# Altium integrated library Analog Devices Data Converters Digital-to-Analog Converters.IntLib: 2231 symbols (part 142 of 181)
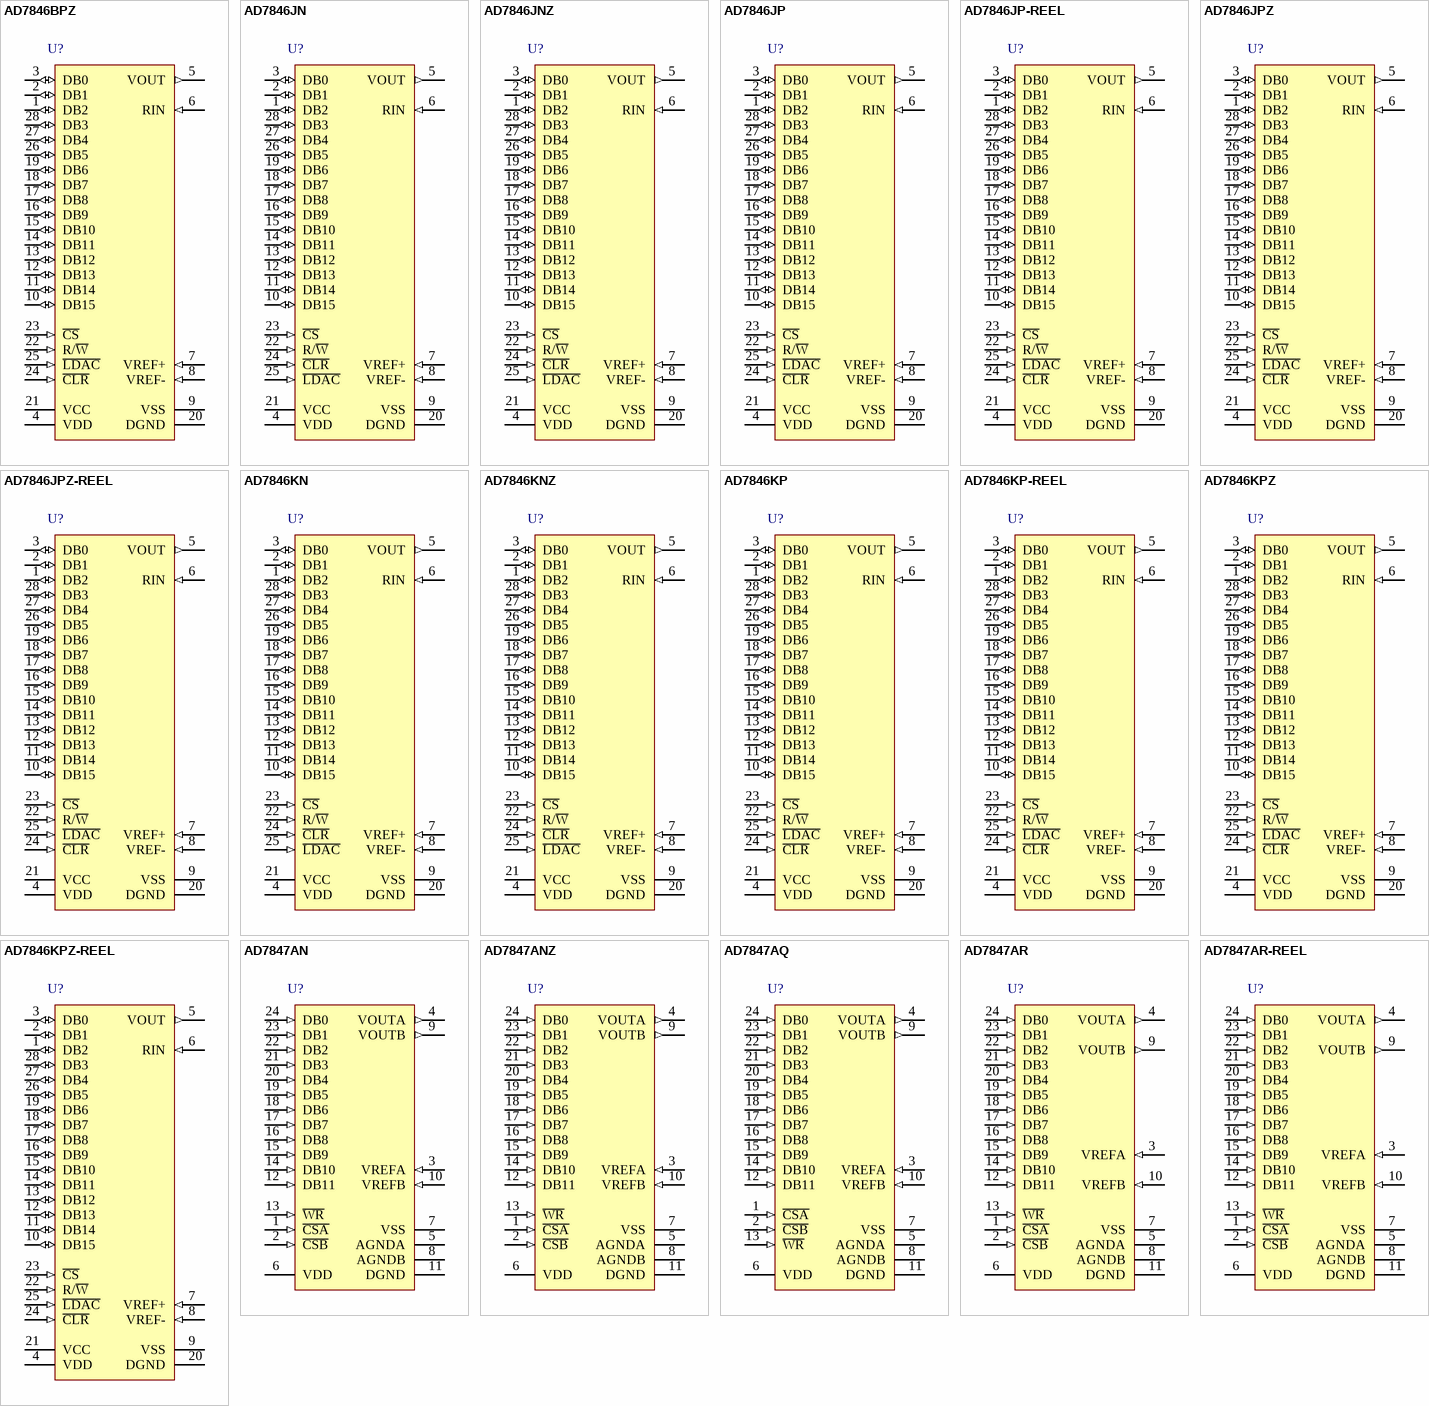
[diagram p255: symbols AD7846BPZ to AD7847AR-REEL]

## AD7847AR-REEL
designator U?
Dual 12-Bit LC2MOS Complete MDAC, -40 to +85 degC, RW-24, Reel; Generic Part Number: AD7847; Manufacturer: Analog Devices; PartNumber: AD7847AR-REEL; # DAC Outputs: 2; Max V+: 15.75V; Op Pwr Diss: 210mW; Resolution (Bits): 12; Settling Time: 4µs; Single Supply: No; DatasheetVersion: C01007a-0-8/00 (rev. C); PackageVersion: 060706-A; PackageReference: RW-24; PackageDescription: 24-Lead Standard Small Outline Package [SOIC_W]; Supplier 1: Digi-Key; Supplier Part Number 1: AD7847AR-REEL-ND; Supplier 2: Newark; Supplier Part Number 2: 09B6080; Supplier 3: Mouser; Supplier Part Number 3: 584-AD7847AR-R; Packing: Reel; RoHS: N; Mounting Technology: Surface Mount; Code_JEDEC: MS-013-AD; ComponentLink1Description: Manufacturer URL; ComponentLink1URL: http://www.analog.com/en/index.html; ComponentLink2Description: Datasheet; ComponentLink2URL: http://www.analog.com/static/imported-files/data_sheets/AD7837_7847.pdf; ComponentLink3Description: Package Specification; ComponentLink3URL: http://www.analog.com/static/imported-files/packages/33665150946139RW_24.pdf; ComponentLink4Description: Product URL; ComponentLink4URL: http://www.analog.com/en/digital-to-analog-converters/da-converters/ad7847/products/product.html
footprint RW-24_N (SOIC, 24-Leads, Body 15.4x7.5mm, Pitch 1.27mm, IPC Medium Density)
footprint RW-24_L (SOIC, 24-Leads, Body 15.4x7.5mm, Pitch 1.27mm, IPC High Density)
footprint RW-24_M (SOIC, 24-Leads, Body 15.4x7.5mm, Pitch 1.27mm, IPC Low Density)
pins: 1 ~{CSA} (in) "Chip Select Input for DAC A. Active low logic input. DAC A is selected when this input is low.", 2 ~{CSB} (in) "Chip Select Input for DAC B. Active low logic input. DAC B is selected when this input is low.", 3 VREFA (in) "Reference Input Voltage for DAC A. This may be an ac or dc signal.", 4 VOUTA (out) "Analog Output Voltage from DAC A.", 5 AGNDA (power) "Analog Ground for DAC A.", 6 VDD (power) "Positive Power Supply.", 7 VSS (power) "Negative Power Supply.", 8 AGNDB (power) "Analog Ground for DAC B.", 9 VOUTB (out) "Analog Output Voltage from DAC B.", 10 VREFB (in) "Reference Input Voltage for DAC B. This may be an ac or dc signal.", 11 DGND (power) "Digital Ground.", 12 DB11 (in) "Data Bit 11 (MSB).", 13 ~{WR} (in) "Write Input. W\R\ is a positive edge triggered input which is used in conjunction with C\S\A\ and C\S\B\ to write data to the DAC latches.", 14 DB10 (in) "Data Bit 10.", 15 DB9 (in) "Data Bit 9.", 16 DB8 (in) "Data Bit 8.", 17 DB7 (in) "Data Bit 7.", 18 DB6 (in) "Data Bit 6.", 19 DB5 (in) "Data Bit 5.", 20 DB4 (in) "Data Bit 4.", 21 DB3 (in) "Data Bit 3.", 22 DB2 (in) "Data Bit 2.", 23 DB1 (in) "Data Bit 1.", 24 DB0 (in) "Data Bit 0 (LSB)."

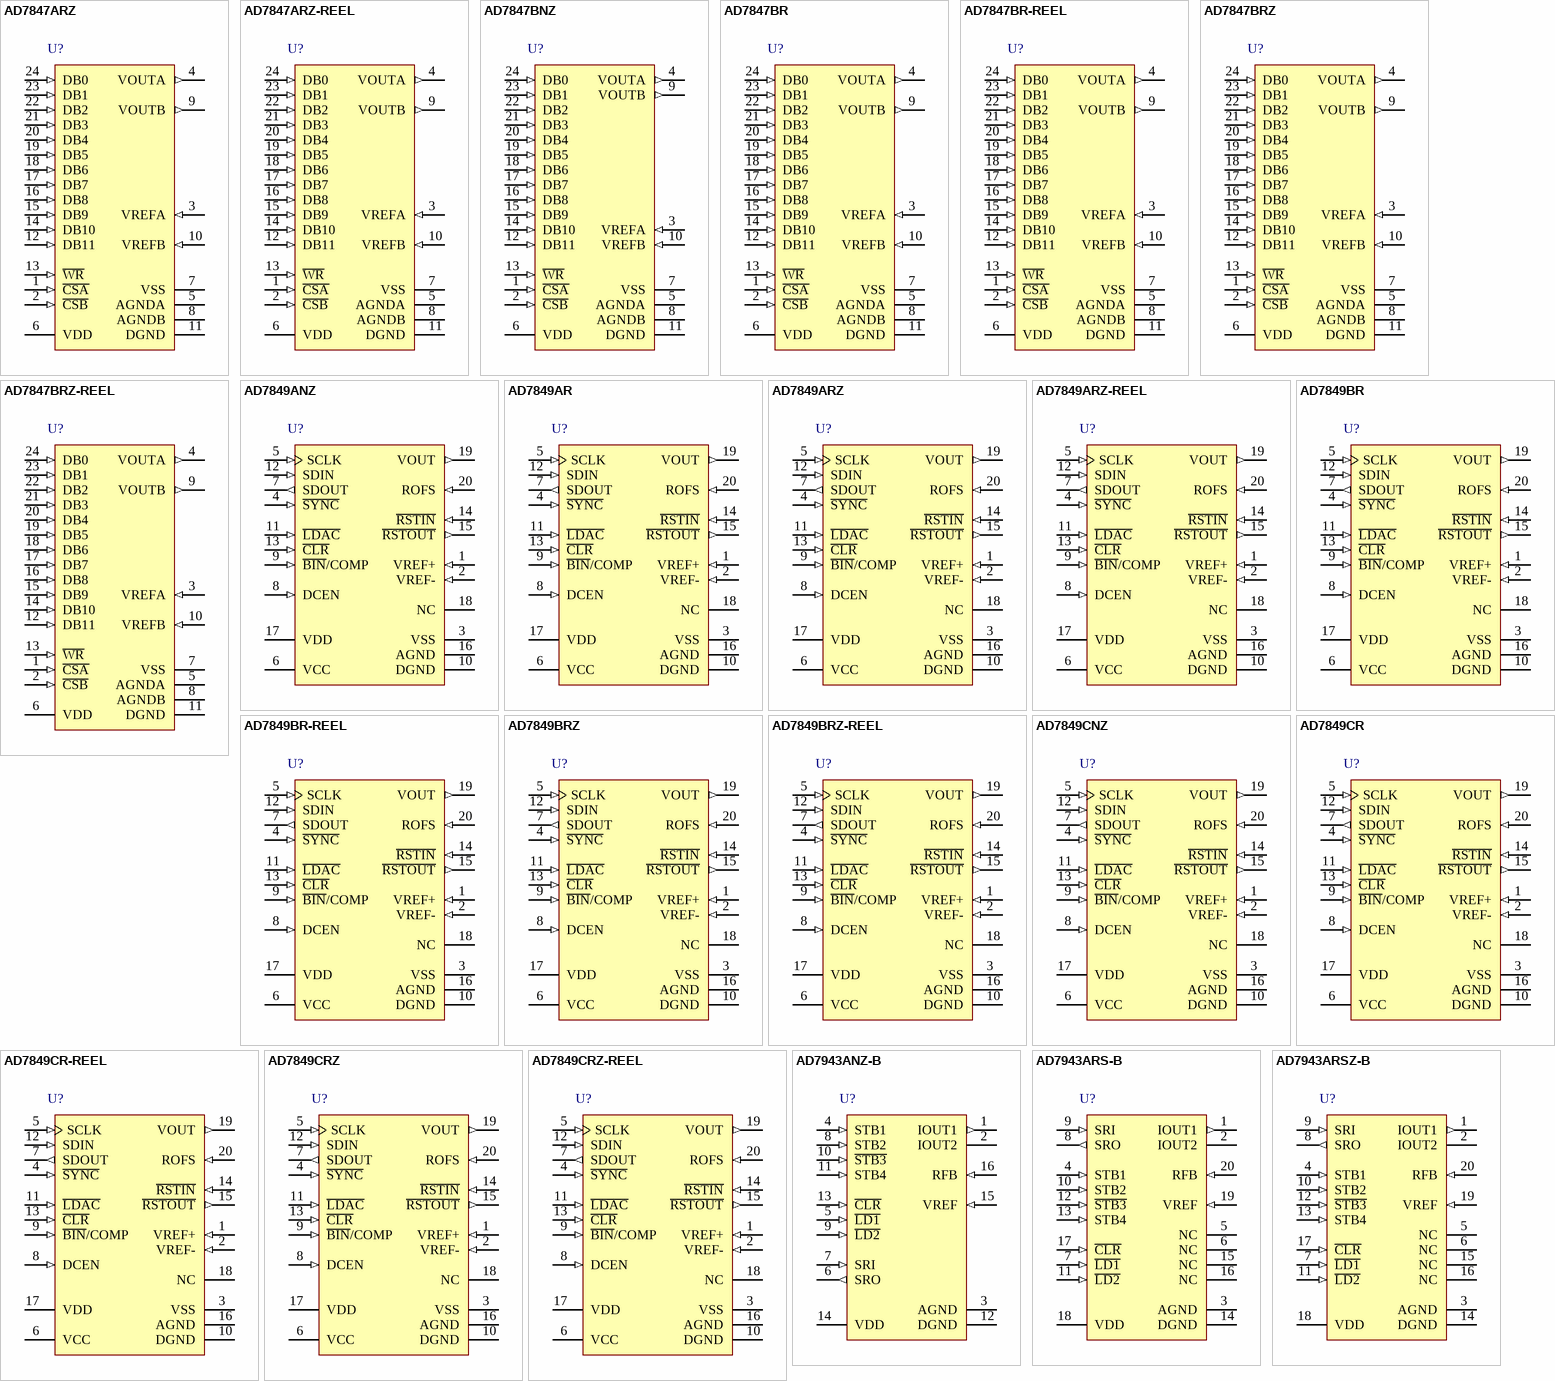
[diagram p79: symbols AD7847ARZ to AD7943ARSZ-B]

## AD7847ARZ
designator U?
Dual 12-Bit LC2MOS Complete MDAC, -40 to +85 degC, RW-24, Pb-Free, Tube; Generic Part Number: AD7847; Manufacturer: Analog Devices; PartNumber: AD7847ARZ; # DAC Outputs: 2; Max V+: 15.75V; Op Pwr Diss: 210mW; Resolution (Bits): 12; Settling Time: 4µs; Single Supply: No; DatasheetVersion: C01007a-0-8/00 (rev. C); PackageVersion: 060706-A; PackageReference: RW-24; PackageDescription: 24-Lead Standard Small Outline Package [SOIC_W]; Supplier 1: Digi-Key; Supplier Part Number 1: AD7847ARZ-ND; Supplier 2: Newark; Supplier Part Number 2: 59K5661; Supplier 3: Mouser; Supplier Part Number 3: 584-AD7847ARZ; Packing: Tube; RoHS: Y; Mounting Technology: Surface Mount; Code_JEDEC: MS-013-AD; ComponentLink1Description: Manufacturer URL; ComponentLink1URL: http://www.analog.com/en/index.html; ComponentLink2Description: Datasheet; ComponentLink2URL: http://www.analog.com/static/imported-files/data_sheets/AD7837_7847.pdf; ComponentLink3Description: Package Specification; ComponentLink3URL: http://www.analog.com/static/imported-files/packages/33665150946139RW_24.pdf; ComponentLink4Description: Product URL; ComponentLink4URL: http://www.analog.com/en/digital-to-analog-converters/da-converters/ad7847/products/product.html
footprint RW-24_N (SOIC, 24-Leads, Body 15.4x7.5mm, Pitch 1.27mm, IPC Medium Density)
footprint RW-24_L (SOIC, 24-Leads, Body 15.4x7.5mm, Pitch 1.27mm, IPC High Density)
footprint RW-24_M (SOIC, 24-Leads, Body 15.4x7.5mm, Pitch 1.27mm, IPC Low Density)
pins: 1 ~{CSA} (in) "Chip Select Input for DAC A. Active low logic input. DAC A is selected when this input is low.", 2 ~{CSB} (in) "Chip Select Input for DAC B. Active low logic input. DAC B is selected when this input is low.", 3 VREFA (in) "Reference Input Voltage for DAC A. This may be an ac or dc signal.", 4 VOUTA (out) "Analog Output Voltage from DAC A.", 5 AGNDA (power) "Analog Ground for DAC A.", 6 VDD (power) "Positive Power Supply.", 7 VSS (power) "Negative Power Supply.", 8 AGNDB (power) "Analog Ground for DAC B.", 9 VOUTB (out) "Analog Output Voltage from DAC B.", 10 VREFB (in) "Reference Input Voltage for DAC B. This may be an ac or dc signal.", 11 DGND (power) "Digital Ground.", 12 DB11 (in) "Data Bit 11 (MSB).", 13 ~{WR} (in) "Write Input. W\R\ is a positive edge triggered input which is used in conjunction with C\S\A\ and C\S\B\ to write data to the DAC latches.", 14 DB10 (in) "Data Bit 10.", 15 DB9 (in) "Data Bit 9.", 16 DB8 (in) "Data Bit 8.", 17 DB7 (in) "Data Bit 7.", 18 DB6 (in) "Data Bit 6.", 19 DB5 (in) "Data Bit 5.", 20 DB4 (in) "Data Bit 4.", 21 DB3 (in) "Data Bit 3.", 22 DB2 (in) "Data Bit 2.", 23 DB1 (in) "Data Bit 1.", 24 DB0 (in) "Data Bit 0 (LSB)."

## AD7847ARZ-REEL
designator U?
Dual 12-Bit LC2MOS Complete MDAC, -40 to +85 degC, RW-24, Pb-Free, Reel; Generic Part Number: AD7847; Manufacturer: Analog Devices; PartNumber: AD7847ARZ-REEL; # DAC Outputs: 2; Max V+: 15.75V; Op Pwr Diss: 210mW; Resolution (Bits): 12; Settling Time: 4µs; Single Supply: No; DatasheetVersion: C01007a-0-8/00 (rev. C); PackageVersion: 060706-A; PackageReference: RW-24; PackageDescription: 24-Lead Standard Small Outline Package [SOIC_W]; Supplier 1: Digi-Key; Supplier Part Number 1: AD7847ARZ-REEL-ND; Supplier 2: Mouser; Supplier Part Number 2: 584-AD7847ARZ-R; Packing: Reel; RoHS: Y; Mounting Technology: Surface Mount; Code_JEDEC: MS-013-AD; ComponentLink1Description: Manufacturer URL; ComponentLink1URL: http://www.analog.com/en/index.html; ComponentLink2Description: Datasheet; ComponentLink2URL: http://www.analog.com/static/imported-files/data_sheets/AD7837_7847.pdf; ComponentLink3Description: Package Specification; ComponentLink3URL: http://www.analog.com/static/imported-files/packages/33665150946139RW_24.pdf; ComponentLink4Description: Product URL; ComponentLink4URL: http://www.analog.com/en/digital-to-analog-converters/da-converters/ad7847/products/product.html
footprint RW-24_N (SOIC, 24-Leads, Body 15.4x7.5mm, Pitch 1.27mm, IPC Medium Density)
footprint RW-24_L (SOIC, 24-Leads, Body 15.4x7.5mm, Pitch 1.27mm, IPC High Density)
footprint RW-24_M (SOIC, 24-Leads, Body 15.4x7.5mm, Pitch 1.27mm, IPC Low Density)
pins: 1 ~{CSA} (in) "Chip Select Input for DAC A. Active low logic input. DAC A is selected when this input is low.", 2 ~{CSB} (in) "Chip Select Input for DAC B. Active low logic input. DAC B is selected when this input is low.", 3 VREFA (in) "Reference Input Voltage for DAC A. This may be an ac or dc signal.", 4 VOUTA (out) "Analog Output Voltage from DAC A.", 5 AGNDA (power) "Analog Ground for DAC A.", 6 VDD (power) "Positive Power Supply.", 7 VSS (power) "Negative Power Supply.", 8 AGNDB (power) "Analog Ground for DAC B.", 9 VOUTB (out) "Analog Output Voltage from DAC B.", 10 VREFB (in) "Reference Input Voltage for DAC B. This may be an ac or dc signal.", 11 DGND (power) "Digital Ground.", 12 DB11 (in) "Data Bit 11 (MSB).", 13 ~{WR} (in) "Write Input. W\R\ is a positive edge triggered input which is used in conjunction with C\S\A\ and C\S\B\ to write data to the DAC latches.", 14 DB10 (in) "Data Bit 10.", 15 DB9 (in) "Data Bit 9.", 16 DB8 (in) "Data Bit 8.", 17 DB7 (in) "Data Bit 7.", 18 DB6 (in) "Data Bit 6.", 19 DB5 (in) "Data Bit 5.", 20 DB4 (in) "Data Bit 4.", 21 DB3 (in) "Data Bit 3.", 22 DB2 (in) "Data Bit 2.", 23 DB1 (in) "Data Bit 1.", 24 DB0 (in) "Data Bit 0 (LSB)."

## AD7847BNZ
designator U?
Dual 12-Bit LC2MOS Complete MDAC, -40 to +85 degC, N-24-1, Pb-Free, Tube; Generic Part Number: AD7847; Manufacturer: Analog Devices; PartNumber: AD7847BNZ; # DAC Outputs: 2; Max V+: 15.75V; Op Pwr Diss: 210mW; Resolution (Bits): 12; Settling Time: 4µs; Single Supply: No; DatasheetVersion: C01007a-0-8/00 (rev. C); PackageVersion: 071006-A; PackageReference: N-24-1; PackageDescription: 24-Lead Plastic Dual In-Line Package [PDIP] Narrow Body; Supplier 1: Digi-Key; Supplier Part Number 1: AD7847BNZ-ND; Supplier 2: Mouser; Supplier Part Number 2: 584-AD7847BNZ; Packing: Tube; RoHS: Y; Mounting Technology: Through Hole; Code_JEDEC: MS-001; ComponentLink1Description: Manufacturer URL; ComponentLink1URL: http://www.analog.com/en/index.html; ComponentLink2Description: Datasheet; ComponentLink2URL: http://www.analog.com/static/imported-files/data_sheets/AD7837_7847.pdf; ComponentLink3Description: Package Specification; ComponentLink3URL: http://www.analog.com/static/imported-files/packages/50726455539629N_24_1.pdf; ComponentLink4Description: Product URL; ComponentLink4URL: http://www.analog.com/en/digital-to-analog-converters/da-converters/ad7847/products/product.html
footprint N-24-1 (DIP, 24-Leads, Row Spacing 7.62mm, Pitch 2.54mm, Body 31.9x6.6mm)
pins: 1 ~{CSA} (in) "Chip Select Input for DAC A. Active low logic input. DAC A is selected when this input is low.", 2 ~{CSB} (in) "Chip Select Input for DAC B. Active low logic input. DAC B is selected when this input is low.", 3 VREFA (in) "Reference Input Voltage for DAC A. This may be an ac or dc signal.", 4 VOUTA (out) "Analog Output Voltage from DAC A.", 5 AGNDA (power) "Analog Ground for DAC A.", 6 VDD (power) "Positive Power Supply.", 7 VSS (power) "Negative Power Supply.", 8 AGNDB (power) "Analog Ground for DAC B.", 9 VOUTB (out) "Analog Output Voltage from DAC B.", 10 VREFB (in) "Reference Input Voltage for DAC B. This may be an ac or dc signal.", 11 DGND (power) "Digital Ground.", 12 DB11 (in) "Data Bit 11 (MSB).", 13 ~{WR} (in) "Write Input. W\R\ is a positive edge triggered input which is used in conjunction with C\S\A\ and C\S\B\ to write data to the DAC latches.", 14 DB10 (in) "Data Bit 10.", 15 DB9 (in) "Data Bit 9.", 16 DB8 (in) "Data Bit 8.", 17 DB7 (in) "Data Bit 7.", 18 DB6 (in) "Data Bit 6.", 19 DB5 (in) "Data Bit 5.", 20 DB4 (in) "Data Bit 4.", 21 DB3 (in) "Data Bit 3.", 22 DB2 (in) "Data Bit 2.", 23 DB1 (in) "Data Bit 1.", 24 DB0 (in) "Data Bit 0 (LSB)."

## AD7847BR
designator U?
Dual 12-Bit LC2MOS Complete MDAC, -40 to +85 degC, RW-24, Tube; Generic Part Number: AD7847; Manufacturer: Analog Devices; PartNumber: AD7847BR; # DAC Outputs: 2; Max V+: 15.75V; Op Pwr Diss: 210mW; Resolution (Bits): 12; Settling Time: 4µs; Single Supply: No; DatasheetVersion: C01007a-0-8/00 (rev. C); PackageVersion: 060706-A; PackageReference: RW-24; PackageDescription: 24-Lead Standard Small Outline Package [SOIC_W]; Supplier 1: Digi-Key; Supplier Part Number 1: AD7847BR-ND; Supplier 2: Mouser; Supplier Part Number 2: 584-AD7847BR; Packing: Tube; RoHS: N; Mounting Technology: Surface Mount; Code_JEDEC: MS-013-AD; ComponentLink1Description: Manufacturer URL; ComponentLink1URL: http://www.analog.com/en/index.html; ComponentLink2Description: Datasheet; ComponentLink2URL: http://www.analog.com/static/imported-files/data_sheets/AD7837_7847.pdf; ComponentLink3Description: Package Specification; ComponentLink3URL: http://www.analog.com/static/imported-files/packages/33665150946139RW_24.pdf; ComponentLink4Description: Product URL; ComponentLink4URL: http://www.analog.com/en/digital-to-analog-converters/da-converters/ad7847/products/product.html
footprint RW-24_N (SOIC, 24-Leads, Body 15.4x7.5mm, Pitch 1.27mm, IPC Medium Density)
footprint RW-24_L (SOIC, 24-Leads, Body 15.4x7.5mm, Pitch 1.27mm, IPC High Density)
footprint RW-24_M (SOIC, 24-Leads, Body 15.4x7.5mm, Pitch 1.27mm, IPC Low Density)
pins: 1 ~{CSA} (in) "Chip Select Input for DAC A. Active low logic input. DAC A is selected when this input is low.", 2 ~{CSB} (in) "Chip Select Input for DAC B. Active low logic input. DAC B is selected when this input is low.", 3 VREFA (in) "Reference Input Voltage for DAC A. This may be an ac or dc signal.", 4 VOUTA (out) "Analog Output Voltage from DAC A.", 5 AGNDA (power) "Analog Ground for DAC A.", 6 VDD (power) "Positive Power Supply.", 7 VSS (power) "Negative Power Supply.", 8 AGNDB (power) "Analog Ground for DAC B.", 9 VOUTB (out) "Analog Output Voltage from DAC B.", 10 VREFB (in) "Reference Input Voltage for DAC B. This may be an ac or dc signal.", 11 DGND (power) "Digital Ground.", 12 DB11 (in) "Data Bit 11 (MSB).", 13 ~{WR} (in) "Write Input. W\R\ is a positive edge triggered input which is used in conjunction with C\S\A\ and C\S\B\ to write data to the DAC latches.", 14 DB10 (in) "Data Bit 10.", 15 DB9 (in) "Data Bit 9.", 16 DB8 (in) "Data Bit 8.", 17 DB7 (in) "Data Bit 7.", 18 DB6 (in) "Data Bit 6.", 19 DB5 (in) "Data Bit 5.", 20 DB4 (in) "Data Bit 4.", 21 DB3 (in) "Data Bit 3.", 22 DB2 (in) "Data Bit 2.", 23 DB1 (in) "Data Bit 1.", 24 DB0 (in) "Data Bit 0 (LSB)."

## AD7847BR-REEL
designator U?
Dual 12-Bit LC2MOS Complete MDAC, -40 to +85 degC, RW-24, Reel; Generic Part Number: AD7847; Manufacturer: Analog Devices; PartNumber: AD7847BR-REEL; # DAC Outputs: 2; Max V+: 15.75V; Op Pwr Diss: 210mW; Resolution (Bits): 12; Settling Time: 4µs; Single Supply: No; DatasheetVersion: C01007a-0-8/00 (rev. C); PackageVersion: 060706-A; PackageReference: RW-24; PackageDescription: 24-Lead Standard Small Outline Package [SOIC_W]; Supplier 1: Mouser; Supplier Part Number 1: N/A; Packing: Reel; RoHS: N; Mounting Technology: Surface Mount; Code_JEDEC: MS-013-AD; ComponentLink1Description: Manufacturer URL; ComponentLink1URL: http://www.analog.com/en/index.html; ComponentLink2Description: Datasheet; ComponentLink2URL: http://www.analog.com/static/imported-files/data_sheets/AD7837_7847.pdf; ComponentLink3Description: Package Specification; ComponentLink3URL: http://www.analog.com/static/imported-files/packages/33665150946139RW_24.pdf; ComponentLink4Description: Product URL; ComponentLink4URL: http://www.analog.com/en/digital-to-analog-converters/da-converters/ad7847/products/product.html
footprint RW-24_N (SOIC, 24-Leads, Body 15.4x7.5mm, Pitch 1.27mm, IPC Medium Density)
footprint RW-24_L (SOIC, 24-Leads, Body 15.4x7.5mm, Pitch 1.27mm, IPC High Density)
footprint RW-24_M (SOIC, 24-Leads, Body 15.4x7.5mm, Pitch 1.27mm, IPC Low Density)
pins: 1 ~{CSA} (in) "Chip Select Input for DAC A. Active low logic input. DAC A is selected when this input is low.", 2 ~{CSB} (in) "Chip Select Input for DAC B. Active low logic input. DAC B is selected when this input is low.", 3 VREFA (in) "Reference Input Voltage for DAC A. This may be an ac or dc signal.", 4 VOUTA (out) "Analog Output Voltage from DAC A.", 5 AGNDA (power) "Analog Ground for DAC A.", 6 VDD (power) "Positive Power Supply.", 7 VSS (power) "Negative Power Supply.", 8 AGNDB (power) "Analog Ground for DAC B.", 9 VOUTB (out) "Analog Output Voltage from DAC B.", 10 VREFB (in) "Reference Input Voltage for DAC B. This may be an ac or dc signal.", 11 DGND (power) "Digital Ground.", 12 DB11 (in) "Data Bit 11 (MSB).", 13 ~{WR} (in) "Write Input. W\R\ is a positive edge triggered input which is used in conjunction with C\S\A\ and C\S\B\ to write data to the DAC latches.", 14 DB10 (in) "Data Bit 10.", 15 DB9 (in) "Data Bit 9.", 16 DB8 (in) "Data Bit 8.", 17 DB7 (in) "Data Bit 7.", 18 DB6 (in) "Data Bit 6.", 19 DB5 (in) "Data Bit 5.", 20 DB4 (in) "Data Bit 4.", 21 DB3 (in) "Data Bit 3.", 22 DB2 (in) "Data Bit 2.", 23 DB1 (in) "Data Bit 1.", 24 DB0 (in) "Data Bit 0 (LSB)."

## AD7847BRZ
designator U?
Dual 12-Bit LC2MOS Complete MDAC, -40 to +85 degC, RW-24, Pb-Free, Tube; Generic Part Number: AD7847; Manufacturer: Analog Devices; PartNumber: AD7847BRZ; # DAC Outputs: 2; Max V+: 15.75V; Op Pwr Diss: 210mW; Resolution (Bits): 12; Settling Time: 4µs; Single Supply: No; DatasheetVersion: C01007a-0-8/00 (rev. C); PackageVersion: 060706-A; PackageReference: RW-24; PackageDescription: 24-Lead Standard Small Outline Package [SOIC_W]; Supplier 1: Digi-Key; Supplier Part Number 1: AD7847BRZ-ND; Supplier 2: Farnell; Supplier Part Number 2: 1438628; Supplier 3: Newark; Supplier Part Number 3: 88H0045; Supplier 4: Mouser; Supplier Part Number 4: 584-AD7847BRZ; Packing: Tube; RoHS: Y; Mounting Technology: Surface Mount; Code_JEDEC: MS-013-AD; ComponentLink1Description: Manufacturer URL; ComponentLink1URL: http://www.analog.com/en/index.html; ComponentLink2Description: Datasheet; ComponentLink2URL: http://www.analog.com/static/imported-files/data_sheets/AD7837_7847.pdf; ComponentLink3Description: Package Specification; ComponentLink3URL: http://www.analog.com/static/imported-files/packages/33665150946139RW_24.pdf; ComponentLink4Description: Product URL; ComponentLink4URL: http://www.analog.com/en/digital-to-analog-converters/da-converters/ad7847/products/product.html
footprint RW-24_N (SOIC, 24-Leads, Body 15.4x7.5mm, Pitch 1.27mm, IPC Medium Density)
footprint RW-24_L (SOIC, 24-Leads, Body 15.4x7.5mm, Pitch 1.27mm, IPC High Density)
footprint RW-24_M (SOIC, 24-Leads, Body 15.4x7.5mm, Pitch 1.27mm, IPC Low Density)
pins: 1 ~{CSA} (in) "Chip Select Input for DAC A. Active low logic input. DAC A is selected when this input is low.", 2 ~{CSB} (in) "Chip Select Input for DAC B. Active low logic input. DAC B is selected when this input is low.", 3 VREFA (in) "Reference Input Voltage for DAC A. This may be an ac or dc signal.", 4 VOUTA (out) "Analog Output Voltage from DAC A.", 5 AGNDA (power) "Analog Ground for DAC A.", 6 VDD (power) "Positive Power Supply.", 7 VSS (power) "Negative Power Supply.", 8 AGNDB (power) "Analog Ground for DAC B.", 9 VOUTB (out) "Analog Output Voltage from DAC B.", 10 VREFB (in) "Reference Input Voltage for DAC B. This may be an ac or dc signal.", 11 DGND (power) "Digital Ground.", 12 DB11 (in) "Data Bit 11 (MSB).", 13 ~{WR} (in) "Write Input. W\R\ is a positive edge triggered input which is used in conjunction with C\S\A\ and C\S\B\ to write data to the DAC latches.", 14 DB10 (in) "Data Bit 10.", 15 DB9 (in) "Data Bit 9.", 16 DB8 (in) "Data Bit 8.", 17 DB7 (in) "Data Bit 7.", 18 DB6 (in) "Data Bit 6.", 19 DB5 (in) "Data Bit 5.", 20 DB4 (in) "Data Bit 4.", 21 DB3 (in) "Data Bit 3.", 22 DB2 (in) "Data Bit 2.", 23 DB1 (in) "Data Bit 1.", 24 DB0 (in) "Data Bit 0 (LSB)."

## AD7847BRZ-REEL
designator U?
Dual 12-Bit LC2MOS Complete MDAC, -40 to +85 degC, RW-24, Pb-Free, Reel; Generic Part Number: AD7847; Manufacturer: Analog Devices; PartNumber: AD7847BRZ-REEL; # DAC Outputs: 2; Max V+: 15.75V; Op Pwr Diss: 210mW; Resolution (Bits): 12; Settling Time: 4µs; Single Supply: No; DatasheetVersion: C01007a-0-8/00 (rev. C); PackageVersion: 060706-A; PackageReference: RW-24; PackageDescription: 24-Lead Standard Small Outline Package [SOIC_W]; Supplier 1: Digi-Key; Supplier Part Number 1: AD7847BRZ-REEL-ND; Supplier 2: Mouser; Supplier Part Number 2: 584-AD7847BRZ-R; Packing: Reel; RoHS: Y; Mounting Technology: Surface Mount; Code_JEDEC: MS-013-AD; ComponentLink1Description: Manufacturer URL; ComponentLink1URL: http://www.analog.com/en/index.html; ComponentLink2Description: Datasheet; ComponentLink2URL: http://www.analog.com/static/imported-files/data_sheets/AD7837_7847.pdf; ComponentLink3Description: Package Specification; ComponentLink3URL: http://www.analog.com/static/imported-files/packages/33665150946139RW_24.pdf; ComponentLink4Description: Product URL; ComponentLink4URL: http://www.analog.com/en/digital-to-analog-converters/da-converters/ad7847/products/product.html
footprint RW-24_N (SOIC, 24-Leads, Body 15.4x7.5mm, Pitch 1.27mm, IPC Medium Density)
footprint RW-24_L (SOIC, 24-Leads, Body 15.4x7.5mm, Pitch 1.27mm, IPC High Density)
footprint RW-24_M (SOIC, 24-Leads, Body 15.4x7.5mm, Pitch 1.27mm, IPC Low Density)
pins: 1 ~{CSA} (in) "Chip Select Input for DAC A. Active low logic input. DAC A is selected when this input is low.", 2 ~{CSB} (in) "Chip Select Input for DAC B. Active low logic input. DAC B is selected when this input is low.", 3 VREFA (in) "Reference Input Voltage for DAC A. This may be an ac or dc signal.", 4 VOUTA (out) "Analog Output Voltage from DAC A.", 5 AGNDA (power) "Analog Ground for DAC A.", 6 VDD (power) "Positive Power Supply.", 7 VSS (power) "Negative Power Supply.", 8 AGNDB (power) "Analog Ground for DAC B.", 9 VOUTB (out) "Analog Output Voltage from DAC B.", 10 VREFB (in) "Reference Input Voltage for DAC B. This may be an ac or dc signal.", 11 DGND (power) "Digital Ground.", 12 DB11 (in) "Data Bit 11 (MSB).", 13 ~{WR} (in) "Write Input. W\R\ is a positive edge triggered input which is used in conjunction with C\S\A\ and C\S\B\ to write data to the DAC latches.", 14 DB10 (in) "Data Bit 10.", 15 DB9 (in) "Data Bit 9.", 16 DB8 (in) "Data Bit 8.", 17 DB7 (in) "Data Bit 7.", 18 DB6 (in) "Data Bit 6.", 19 DB5 (in) "Data Bit 5.", 20 DB4 (in) "Data Bit 4.", 21 DB3 (in) "Data Bit 3.", 22 DB2 (in) "Data Bit 2.", 23 DB1 (in) "Data Bit 1.", 24 DB0 (in) "Data Bit 0 (LSB)."

## AD7849ANZ
designator U?
Single 16-Bit Digital-to-Analog Converter with Serial Interface, -40 to +85 degC, N-20, Pb-Free, Tube; Generic Part Number: AD7849; Manufacturer: Analog Devices; PartNumber: AD7849ANZ; # DAC Outputs: 1; Max V+: 15.75V; Op Pwr Diss: 163mW; Resolution (Bits): 16; Settling Time: 7µs; Single Supply: No; DatasheetVersion: Rev.C; PackageVersion: 070706-A; PackageReference: N-20; PackageDescription: 20-Lead Plastic Dual In-Line Package [PDIP] Narrow Body; Supplier 1: Digi-Key; Supplier Part Number 1: AD7849ANZ-ND; Supplier 2: Mouser; Supplier Part Number 2: 584-AD7849ANZ; Packing: Tube; RoHS: Y; Mounting Technology: Through Hole; Code_JEDEC: MS-001; ComponentLink1Description: Manufacturer URL; ComponentLink1URL: http://www.analog.com/en/index.html; ComponentLink2Description: Datasheet; ComponentLink2URL: http://www.analog.com/static/imported-files/data_sheets/AD7849.pdf; ComponentLink3Description: Package Specification; ComponentLink3URL: http://www.analog.com/static/imported-files/packages/50601349676519N_20.pdf; ComponentLink4Description: Product URL; ComponentLink4URL: http://www.analog.com/en/digital-to-analog-converters/da-converters/ad7849/products/product.html
footprint N-20 (DIP, 20-Leads, Row Spacing 7.62mm, Pitch 2.54mm, Body 25.9x6.6mm)
pins: 1 VREF+ (in) "VREF+ Input. The DAC is specified for VREF+ of 5 V. The DAC is fully multiplying so that the VREF+ range is +5 V to -5 V.", 2 VREF- (in) "VREF? Input. The DAC is specified for VREF- of -5 V. The DAC is fully multiplying so that the VREF- range is -5 V to +5 V.", 3 VSS (power) "Negative supply for the analog circuitry. This is nominally -15 V.", 4 ~{SYNC} (in) "Data Synchronization Logic Input. When it goes low, the internal logic is initialized in readiness for a new data-word.", 5 SCLK (in) "Serial Clock Logic Input. Data is clocked into the input register on each SCLK falling edge.", 6 VCC (power) "Positive supply for the digital circuitry. This is nominally 5 V.", 7 SDOUT (out) "Serial Data Output. With DCEN at Logic 1, this output is enabled, and the serial data in the input shift register is clocked out on each rising edge of SCLK.", 8 DCEN (in) "Daisy-Chain Enable Logic Input. Connect this pin high if a daisy-chain interface is being used; otherwise, this pin must be connected low.", 9 ~{BIN}/COMP (in) "Logic Input. This input selects the data format to be either binary or twos complement. In the unipolar output range, natural binary format is selected by connecting the input to Logic 0. In the bipolar output range, offset (See Datasheet)", 10 DGND (power) "Digital Ground. Ground reference point for the on-chip digital circuitry.", 11 ~{LDAC} (in) "Load DAC Logic Input. This input updates the DAC output. The DAC output is updated on the falling edge of this signal, or alternatively, if this input is permanently low, an automatic update mode is selected where the DAC is (See Datasheet)", 12 SDIN (in) "Serial Data Input. The 16-bit serial data-word is applied to this input.", 13 ~{CLR} (in) "Clear Logic Input. Taking this input low sets VOUT to 0 V in both the unipolar output range and the bipolar twos complement output range. It sets VOUT to VREF- in the offset binary bipolar output range.", 14 ~{RSTIN} (in) "Reset Logic Input. This input allows external access to the internal reset logic. Applying Logic 0 to this input,resets the DAC output to 0 V. In normal operation, it should be tied to Logic 1.", 15 ~{RSTOUT} (out) "Reset Logic Output. This is the output from the on-chip voltage monitor used in the reset circuit. It can be used to control other system components, if desired", 16 AGND (power) "This is the analog ground for the device. It is the point to which the output gets shorted in reset mode.", 17 VDD (power) "Positive Supply for the Analog Circuitry. This is 15 V nominal.", 18 NC "No Connect. Leave unconnected.", 19 VOUT (out) "DAC Output Voltage Pin.", 20 ROFS (in) "Input to Summing Resistor of DAC Output Amplifier. This is used to select the output voltage ranges. Also, see Figure 20 to Figure 23 in the Applying the AD7849 section."

## AD7849AR
designator U?
Single 16-Bit Digital-to-Analog Converter with Serial Interface, -40 to +85 degC, RW-20, Tube; Generic Part Number: AD7849; Manufacturer: Analog Devices; PartNumber: AD7849AR; # DAC Outputs: 1; Max V+: 15.75V; Op Pwr Diss: 163mW; Resolution (Bits): 16; Settling Time: 7µs; Single Supply: No; DatasheetVersion: Rev.C; PackageVersion: 060706-A; PackageReference: RW-20; PackageDescription: 20-Lead Standard Small Outline Package [SOIC_W] Wide Body; Supplier 1: Digi-Key; Supplier Part Number 1: AD7849AR-ND; Supplier 2: Mouser; Supplier Part Number 2: 584-AD7849AR; Packing: Tube; RoHS: N; Mounting Technology: Surface Mount; Code_JEDEC: MS-013-AC; ComponentLink1Description: Manufacturer URL; ComponentLink1URL: http://www.analog.com/en/index.html; ComponentLink2Description: Datasheet; ComponentLink2URL: http://www.analog.com/static/imported-files/data_sheets/AD7849.pdf; ComponentLink3Description: Package Specification; ComponentLink3URL: http://www.analog.com/static/imported-files/packages/233848RW_20.pdf; ComponentLink4Description: Product URL; ComponentLink4URL: http://www.analog.com/en/digital-to-analog-converters/da-converters/ad7849/products/product.html
footprint RW-20_N (SOIC, 20-Leads, Body 12.8x7.5mm, Pitch 1.27mm, IPC Medium Density)
footprint RW-20_L (SOIC, 20-Leads, Body 12.8x7.5mm, Pitch 1.27mm, IPC High Density)
footprint RW-20_M (SOIC, 20-Leads, Body 12.8x7.5mm, Pitch 1.27mm, IPC Low Density)
pins: 1 VREF+ (in) "VREF+ Input. The DAC is specified for VREF+ of 5 V. The DAC is fully multiplying so that the VREF+ range is +5 V to -5 V.", 2 VREF- (in) "VREF- Input. The DAC is specified for VREF- of -5 V. The DAC is fully multiplying so that the VREF- range is -5 V to +5 V.", 3 VSS (power) "Negative supply for the analog circuitry. This is nominally -15 V.", 4 ~{SYNC} (in) "Data Synchronization Logic Input. When it goes low, the internal logic is initialized in readiness for a new data-word.", 5 SCLK (in) "Serial Clock Logic Input. Data is clocked into the input register on each SCLK falling edge.", 6 VCC (power) "Positive supply for the digital circuitry. This is nominally 5 V.", 7 SDOUT (out) "Serial Data Output. With DCEN at Logic 1, this output is enabled, and the serial data in the input shift register is clocked out on each rising edge of SCLK.", 8 DCEN (in) "Daisy-Chain Enable Logic Input. Connect this pin high if a daisy-chain interface is being used; otherwise, this pin must be connected low.", 9 ~{BIN}/COMP (in) "Logic Input. This input selects the data format to be either binary or twos complement. In the unipolar output range, natural binary format is selected by connecting the input to Logic 0. In the bipolar output range, offset (See Datasheet)", 10 DGND (power) "Digital Ground. Ground reference point for the on-chip digital circuitry.", 11 ~{LDAC} (in) "Load DAC Logic Input. This input updates the DAC output. The DAC output is updated on the falling edge of this signal, or alternatively, if this input is permanently low, an automatic update mode is selected where the DAC is (See Datasheet)", 12 SDIN (in) "Serial Data Input. The 16-bit serial data-word is applied to this input.", 13 ~{CLR} (in) "Clear Logic Input. Taking this input low sets VOUT to 0 V in both the unipolar output range and the bipolar twos complement output range. It sets VOUT to VREF- in the offset binary bipolar output range.", 14 ~{RSTIN} (in) "Reset Logic Input. This input allows external access to the internal reset logic. Applying Logic 0 to this input,resets the DAC output to 0 V. In normal operation, it should be tied to Logic 1.", 15 ~{RSTOUT} (out) "Reset Logic Output. This is the output from the on-chip voltage monitor used in the reset circuit. It can be used to control other system components, if desired", 16 AGND (power) "This is the analog ground for the device. It is the point to which the output gets shorted in reset mode.", 17 VDD (power) "Positive Supply for the Analog Circuitry. This is 15 V nominal.", 18 NC "No Connect. Leave unconnected.", 19 VOUT (out) "DAC Output Voltage Pin.", 20 ROFS (in) "Input to Summing Resistor of DAC Output Amplifier. This is used to select the output voltage ranges. Also, see Figure 20 to Figure 23 in the Applying the AD7849 section."

## AD7849ARZ
designator U?
Single 16-Bit Digital-to-Analog Converter with Serial Interface, -40 to +85 degC, RW-20, Pb-Free, Tube; Generic Part Number: AD7849; Manufacturer: Analog Devices; PartNumber: AD7849ARZ; # DAC Outputs: 1; Max V+: 15.75V; Op Pwr Diss: 163mW; Resolution (Bits): 16; Settling Time: 7µs; Single Supply: No; DatasheetVersion: Rev.C; PackageVersion: 060706-A; PackageReference: RW-20; PackageDescription: 20-Lead Standard Small Outline Package [SOIC_W] Wide Body; Supplier 1: Digi-Key; Supplier Part Number 1: AD7849ARZ-ND; Supplier 2: Mouser; Supplier Part Number 2: 584-AD7849ARZ; Packing: Tube; RoHS: Y; Mounting Technology: Surface Mount; Code_JEDEC: MS-013-AC; ComponentLink1Description: Manufacturer URL; ComponentLink1URL: http://www.analog.com/en/index.html; ComponentLink2Description: Datasheet; ComponentLink2URL: http://www.analog.com/static/imported-files/data_sheets/AD7849.pdf; ComponentLink3Description: Package Specification; ComponentLink3URL: http://www.analog.com/static/imported-files/packages/233848RW_20.pdf; ComponentLink4Description: Product URL; ComponentLink4URL: http://www.analog.com/en/digital-to-analog-converters/da-converters/ad7849/products/product.html
footprint RW-20_N (SOIC, 20-Leads, Body 12.8x7.5mm, Pitch 1.27mm, IPC Medium Density)
footprint RW-20_L (SOIC, 20-Leads, Body 12.8x7.5mm, Pitch 1.27mm, IPC High Density)
footprint RW-20_M (SOIC, 20-Leads, Body 12.8x7.5mm, Pitch 1.27mm, IPC Low Density)
pins: 1 VREF+ (in) "VREF+ Input. The DAC is specified for VREF+ of 5 V. The DAC is fully multiplying so that the VREF+ range is +5 V to -5 V.", 2 VREF- (in) "VREF- Input. The DAC is specified for VREF- of -5 V. The DAC is fully multiplying so that the VREF- range is -5 V to +5 V.", 3 VSS (power) "Negative supply for the analog circuitry. This is nominally -15 V.", 4 ~{SYNC} (in) "Data Synchronization Logic Input. When it goes low, the internal logic is initialized in readiness for a new data-word.", 5 SCLK (in) "Serial Clock Logic Input. Data is clocked into the input register on each SCLK falling edge.", 6 VCC (power) "Positive supply for the digital circuitry. This is nominally 5 V.", 7 SDOUT (out) "Serial Data Output. With DCEN at Logic 1, this output is enabled, and the serial data in the input shift register is clocked out on each rising edge of SCLK.", 8 DCEN (in) "Daisy-Chain Enable Logic Input. Connect this pin high if a daisy-chain interface is being used; otherwise, this pin must be connected low.", 9 ~{BIN}/COMP (in) "Logic Input. This input selects the data format to be either binary or twos complement. In the unipolar output range, natural binary format is selected by connecting the input to Logic 0. In the bipolar output range, offset (See Datasheet)", 10 DGND (power) "Digital Ground. Ground reference point for the on-chip digital circuitry.", 11 ~{LDAC} (in) "Load DAC Logic Input. This input updates the DAC output. The DAC output is updated on the falling edge of this signal, or alternatively, if this input is permanently low, an automatic update mode is selected where the DAC is (See Datasheet)", 12 SDIN (in) "Serial Data Input. The 16-bit serial data-word is applied to this input.", 13 ~{CLR} (in) "Clear Logic Input. Taking this input low sets VOUT to 0 V in both the unipolar output range and the bipolar twos complement output range. It sets VOUT to VREF- in the offset binary bipolar output range.", 14 ~{RSTIN} (in) "Reset Logic Input. This input allows external access to the internal reset logic. Applying Logic 0 to this input,resets the DAC output to 0 V. In normal operation, it should be tied to Logic 1.", 15 ~{RSTOUT} (out) "Reset Logic Output. This is the output from the on-chip voltage monitor used in the reset circuit. It can be used to control other system components, if desired", 16 AGND (power) "This is the analog ground for the device. It is the point to which the output gets shorted in reset mode.", 17 VDD (power) "Positive Supply for the Analog Circuitry. This is 15 V nominal.", 18 NC "No Connect. Leave unconnected.", 19 VOUT (out) "DAC Output Voltage Pin.", 20 ROFS (in) "Input to Summing Resistor of DAC Output Amplifier. This is used to select the output voltage ranges. Also, see Figure 20 to Figure 23 in the Applying the AD7849 section."

## AD7849ARZ-REEL
designator U?
Single 16-Bit Digital-to-Analog Converter with Serial Interface, -40 to +85 degC, RW-20, Pb-Free, Reel; Generic Part Number: AD7849; Manufacturer: Analog Devices; PartNumber: AD7849ARZ-REEL; # DAC Outputs: 1; Max V+: 15.75V; Op Pwr Diss: 163mW; Resolution (Bits): 16; Settling Time: 7µs; Single Supply: No; DatasheetVersion: Rev.C; PackageVersion: 060706-A; PackageReference: RW-20; PackageDescription: 20-Lead Standard Small Outline Package [SOIC_W] Wide Body; Supplier 1: Digi-Key; Supplier Part Number 1: AD7849ARZ-REEL-ND; Supplier 2: Mouser; Supplier Part Number 2: 584-AD7849ARZ-R; Packing: Reel; RoHS: Y; Mounting Technology: Surface Mount; Code_JEDEC: MS-013-AC; ComponentLink1Description: Manufacturer URL; ComponentLink1URL: http://www.analog.com/en/index.html; ComponentLink2Description: Datasheet; ComponentLink2URL: http://www.analog.com/static/imported-files/data_sheets/AD7849.pdf; ComponentLink3Description: Package Specification; ComponentLink3URL: http://www.analog.com/static/imported-files/packages/233848RW_20.pdf; ComponentLink4Description: Product URL; ComponentLink4URL: http://www.analog.com/en/digital-to-analog-converters/da-converters/ad7849/products/product.html
footprint RW-20_N (SOIC, 20-Leads, Body 12.8x7.5mm, Pitch 1.27mm, IPC Medium Density)
footprint RW-20_L (SOIC, 20-Leads, Body 12.8x7.5mm, Pitch 1.27mm, IPC High Density)
footprint RW-20_M (SOIC, 20-Leads, Body 12.8x7.5mm, Pitch 1.27mm, IPC Low Density)
pins: 1 VREF+ (in) "VREF+ Input. The DAC is specified for VREF+ of 5 V. The DAC is fully multiplying so that the VREF+ range is +5 V to -5 V.", 2 VREF- (in) "VREF- Input. The DAC is specified for VREF- of -5 V. The DAC is fully multiplying so that the VREF- range is -5 V to +5 V.", 3 VSS (power) "Negative supply for the analog circuitry. This is nominally -15 V.", 4 ~{SYNC} (in) "Data Synchronization Logic Input. When it goes low, the internal logic is initialized in readiness for a new data-word.", 5 SCLK (in) "Serial Clock Logic Input. Data is clocked into the input register on each SCLK falling edge.", 6 VCC (power) "Positive supply for the digital circuitry. This is nominally 5 V.", 7 SDOUT (out) "Serial Data Output. With DCEN at Logic 1, this output is enabled, and the serial data in the input shift register is clocked out on each rising edge of SCLK.", 8 DCEN (in) "Daisy-Chain Enable Logic Input. Connect this pin high if a daisy-chain interface is being used; otherwise, this pin must be connected low.", 9 ~{BIN}/COMP (in) "Logic Input. This input selects the data format to be either binary or twos complement. In the unipolar output range, natural binary format is selected by connecting the input to Logic 0. In the bipolar output range, offset (See Datasheet)", 10 DGND (power) "Digital Ground. Ground reference point for the on-chip digital circuitry.", 11 ~{LDAC} (in) "Load DAC Logic Input. This input updates the DAC output. The DAC output is updated on the falling edge of this signal, or alternatively, if this input is permanently low, an automatic update mode is selected where the DAC is (See Datasheet)", 12 SDIN (in) "Serial Data Input. The 16-bit serial data-word is applied to this input.", 13 ~{CLR} (in) "Clear Logic Input. Taking this input low sets VOUT to 0 V in both the unipolar output range and the bipolar twos complement output range. It sets VOUT to VREF- in the offset binary bipolar output range.", 14 ~{RSTIN} (in) "Reset Logic Input. This input allows external access to the internal reset logic. Applying Logic 0 to this input,resets the DAC output to 0 V. In normal operation, it should be tied to Logic 1.", 15 ~{RSTOUT} (out) "Reset Logic Output. This is the output from the on-chip voltage monitor used in the reset circuit. It can be used to control other system components, if desired", 16 AGND (power) "This is the analog ground for the device. It is the point to which the output gets shorted in reset mode.", 17 VDD (power) "Positive Supply for the Analog Circuitry. This is 15 V nominal.", 18 NC "No Connect. Leave unconnected.", 19 VOUT (out) "DAC Output Voltage Pin.", 20 ROFS (in) "Input to Summing Resistor of DAC Output Amplifier. This is used to select the output voltage ranges. Also, see Figure 20 to Figure 23 in the Applying the AD7849 section."

## AD7849BR
designator U?
Single 16-Bit Digital-to-Analog Converter with Serial Interface, -40 to +85 degC, RW-20, Tube; Generic Part Number: AD7849; Manufacturer: Analog Devices; PartNumber: AD7849BR; # DAC Outputs: 1; Max V+: 15.75V; Op Pwr Diss: 163mW; Resolution (Bits): 16; Settling Time: 7µs; Single Supply: No; DatasheetVersion: Rev.C; PackageVersion: 060706-A; PackageReference: RW-20; PackageDescription: 20-Lead Standard Small Outline Package [SOIC_W] Wide Body; Supplier 1: Digi-Key; Supplier Part Number 1: AD7849BR-ND; Supplier 2: Mouser; Supplier Part Number 2: 584-AD7849BR; Packing: Tube; RoHS: N; Mounting Technology: Surface Mount; Code_JEDEC: MS-013-AC; ComponentLink1Description: Manufacturer URL; ComponentLink1URL: http://www.analog.com/en/index.html; ComponentLink2Description: Datasheet; ComponentLink2URL: http://www.analog.com/static/imported-files/data_sheets/AD7849.pdf; ComponentLink3Description: Package Specification; ComponentLink3URL: http://www.analog.com/static/imported-files/packages/233848RW_20.pdf; ComponentLink4Description: Product URL; ComponentLink4URL: http://www.analog.com/en/digital-to-analog-converters/da-converters/ad7849/products/product.html
footprint RW-20_N (SOIC, 20-Leads, Body 12.8x7.5mm, Pitch 1.27mm, IPC Medium Density)
footprint RW-20_L (SOIC, 20-Leads, Body 12.8x7.5mm, Pitch 1.27mm, IPC High Density)
footprint RW-20_M (SOIC, 20-Leads, Body 12.8x7.5mm, Pitch 1.27mm, IPC Low Density)
pins: 1 VREF+ (in) "VREF+ Input. The DAC is specified for VREF+ of 5 V. The DAC is fully multiplying so that the VREF+ range is +5 V to -5 V.", 2 VREF- (in) "VREF- Input. The DAC is specified for VREF- of -5 V. The DAC is fully multiplying so that the VREF- range is -5 V to +5 V.", 3 VSS (power) "Negative supply for the analog circuitry. This is nominally -15 V.", 4 ~{SYNC} (in) "Data Synchronization Logic Input. When it goes low, the internal logic is initialized in readiness for a new data-word.", 5 SCLK (in) "Serial Clock Logic Input. Data is clocked into the input register on each SCLK falling edge.", 6 VCC (power) "Positive supply for the digital circuitry. This is nominally 5 V.", 7 SDOUT (out) "Serial Data Output. With DCEN at Logic 1, this output is enabled, and the serial data in the input shift register is clocked out on each rising edge of SCLK.", 8 DCEN (in) "Daisy-Chain Enable Logic Input. Connect this pin high if a daisy-chain interface is being used; otherwise, this pin must be connected low.", 9 ~{BIN}/COMP (in) "Logic Input. This input selects the data format to be either binary or twos complement. In the unipolar output range, natural binary format is selected by connecting the input to Logic 0. In the bipolar output range, offset (See Datasheet)", 10 DGND (power) "Digital Ground. Ground reference point for the on-chip digital circuitry.", 11 ~{LDAC} (in) "Load DAC Logic Input. This input updates the DAC output. The DAC output is updated on the falling edge of this signal, or alternatively, if this input is permanently low, an automatic update mode is selected where the DAC is (See Datasheet)", 12 SDIN (in) "Serial Data Input. The 16-bit serial data-word is applied to this input.", 13 ~{CLR} (in) "Clear Logic Input. Taking this input low sets VOUT to 0 V in both the unipolar output range and the bipolar twos complement output range. It sets VOUT to VREF- in the offset binary bipolar output range.", 14 ~{RSTIN} (in) "Reset Logic Input. This input allows external access to the internal reset logic. Applying Logic 0 to this input,resets the DAC output to 0 V. In normal operation, it should be tied to Logic 1.", 15 ~{RSTOUT} (out) "Reset Logic Output. This is the output from the on-chip voltage monitor used in the reset circuit. It can be used to control other system components, if desired", 16 AGND (power) "This is the analog ground for the device. It is the point to which the output gets shorted in reset mode.", 17 VDD (power) "Positive Supply for the Analog Circuitry. This is 15 V nominal.", 18 NC "No Connect. Leave unconnected.", 19 VOUT (out) "DAC Output Voltage Pin.", 20 ROFS (in) "Input to Summing Resistor of DAC Output Amplifier. This is used to select the output voltage ranges. Also, see Figure 20 to Figure 23 in the Applying the AD7849 section."

## AD7849BR-REEL
designator U?
Single 16-Bit Digital-to-Analog Converter with Serial Interface, -40 to +85 degC, RW-20, Reel; Generic Part Number: AD7849; Manufacturer: Analog Devices; PartNumber: AD7849BR-REEL; # DAC Outputs: 1; Max V+: 15.75V; Op Pwr Diss: 163mW; Resolution (Bits): 16; Settling Time: 7µs; Single Supply: No; DatasheetVersion: Rev.C; PackageVersion: 060706-A; PackageReference: RW-20; PackageDescription: 20-Lead Standard Small Outline Package [SOIC_W] Wide Body; Supplier 1: Digi-Key; Supplier Part Number 1: AD7849BR-REEL-ND; Supplier 2: Mouser; Supplier Part Number 2: 584-AD7849BR-R; Packing: Reel; RoHS: N; Mounting Technology: Surface Mount; Code_JEDEC: MS-013-AC; ComponentLink1Description: Manufacturer URL; ComponentLink1URL: http://www.analog.com/en/index.html; ComponentLink2Description: Datasheet; ComponentLink2URL: http://www.analog.com/static/imported-files/data_sheets/AD7849.pdf; ComponentLink3Description: Package Specification; ComponentLink3URL: http://www.analog.com/static/imported-files/packages/233848RW_20.pdf; ComponentLink4Description: Product URL; ComponentLink4URL: http://www.analog.com/en/digital-to-analog-converters/da-converters/ad7849/products/product.html
footprint RW-20_N (SOIC, 20-Leads, Body 12.8x7.5mm, Pitch 1.27mm, IPC Medium Density)
footprint RW-20_L (SOIC, 20-Leads, Body 12.8x7.5mm, Pitch 1.27mm, IPC High Density)
footprint RW-20_M (SOIC, 20-Leads, Body 12.8x7.5mm, Pitch 1.27mm, IPC Low Density)
pins: 1 VREF+ (in) "VREF+ Input. The DAC is specified for VREF+ of 5 V. The DAC is fully multiplying so that the VREF+ range is +5 V to -5 V.", 2 VREF- (in) "VREF- Input. The DAC is specified for VREF- of -5 V. The DAC is fully multiplying so that the VREF- range is -5 V to +5 V.", 3 VSS (power) "Negative supply for the analog circuitry. This is nominally -15 V.", 4 ~{SYNC} (in) "Data Synchronization Logic Input. When it goes low, the internal logic is initialized in readiness for a new data-word.", 5 SCLK (in) "Serial Clock Logic Input. Data is clocked into the input register on each SCLK falling edge.", 6 VCC (power) "Positive supply for the digital circuitry. This is nominally 5 V.", 7 SDOUT (out) "Serial Data Output. With DCEN at Logic 1, this output is enabled, and the serial data in the input shift register is clocked out on each rising edge of SCLK.", 8 DCEN (in) "Daisy-Chain Enable Logic Input. Connect this pin high if a daisy-chain interface is being used; otherwise, this pin must be connected low.", 9 ~{BIN}/COMP (in) "Logic Input. This input selects the data format to be either binary or twos complement. In the unipolar output range, natural binary format is selected by connecting the input to Logic 0. In the bipolar output range, offset (See Datasheet)", 10 DGND (power) "Digital Ground. Ground reference point for the on-chip digital circuitry.", 11 ~{LDAC} (in) "Load DAC Logic Input. This input updates the DAC output. The DAC output is updated on the falling edge of this signal, or alternatively, if this input is permanently low, an automatic update mode is selected where the DAC is (See Datasheet)", 12 SDIN (in) "Serial Data Input. The 16-bit serial data-word is applied to this input.", 13 ~{CLR} (in) "Clear Logic Input. Taking this input low sets VOUT to 0 V in both the unipolar output range and the bipolar twos complement output range. It sets VOUT to VREF- in the offset binary bipolar output range.", 14 ~{RSTIN} (in) "Reset Logic Input. This input allows external access to the internal reset logic. Applying Logic 0 to this input,resets the DAC output to 0 V. In normal operation, it should be tied to Logic 1.", 15 ~{RSTOUT} (out) "Reset Logic Output. This is the output from the on-chip voltage monitor used in the reset circuit. It can be used to control other system components, if desired", 16 AGND (power) "This is the analog ground for the device. It is the point to which the output gets shorted in reset mode.", 17 VDD (power) "Positive Supply for the Analog Circuitry. This is 15 V nominal.", 18 NC "No Connect. Leave unconnected.", 19 VOUT (out) "DAC Output Voltage Pin.", 20 ROFS (in) "Input to Summing Resistor of DAC Output Amplifier. This is used to select the output voltage ranges. Also, see Figure 20 to Figure 23 in the Applying the AD7849 section."